# Altium footprint library uku20710_proc.PcbLib: 26 footprints (part 2 of 2)
Each footprint in its own frame and in the unit in brackets; x right, y up, seen from the top. Pads: shape width x height; smd on the part's side, far side on the other; paste and mask are expansions set on the pad; w line width, h text height; cw(c..) or ccw(c..) is an arc to the next point about the centre after c.
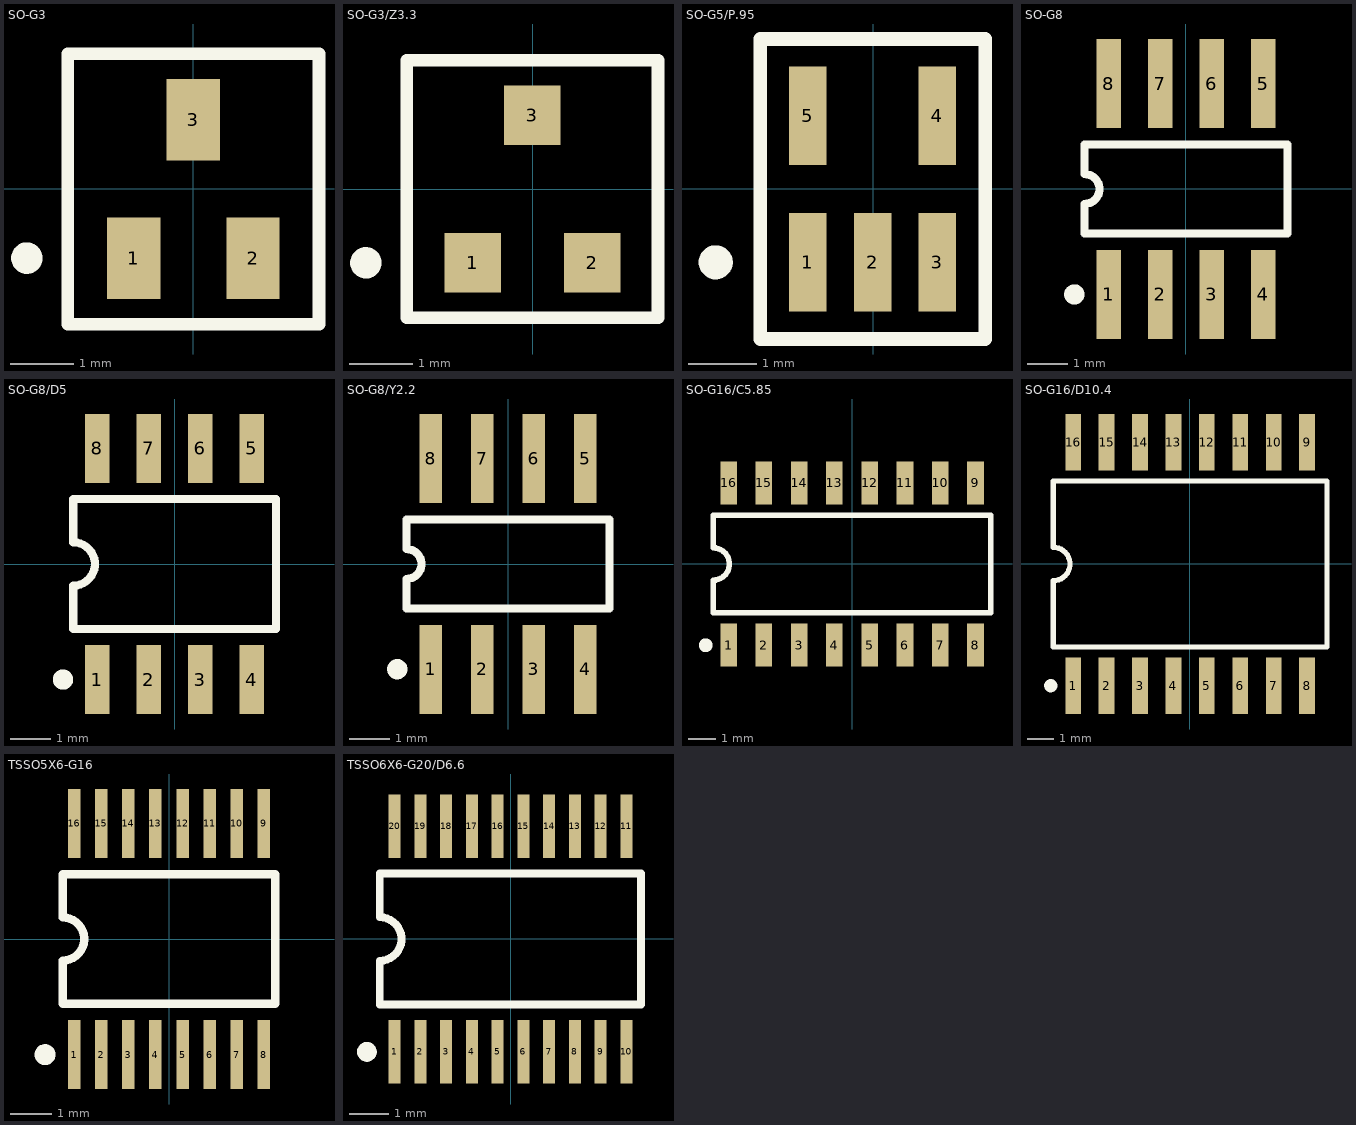
[diagram p1: the footprints below, top view; thin cyan lines are the x and y axes]

## SO-G3 [mm]
pads (3):
  rect 0.85x1.3 smd: 1(-0.949,-1.101) 2(0.951,-1.101) 3(0.001,1.099)
Top Overlay:
  circle w0.25: c-2.649,-1.101 r0.125
  lines w0.2: -1.999,-2.151 2.001,-2.151 2.001,2.149 -1.999,2.149 -1.999,-2.151

## SO-G3/Z3.3 [mm]
pads (3):
  rect 0.9x0.95 smd: 1(-0.953,-1.168) 2(0.947,-1.168) 3(-0.003,1.182)
Top Overlay:
  circle w0.25: c-2.653,-1.168 r0.125
  lines w0.2: -2.003,-2.043 1.997,-2.043 1.997,2.057 -2.003,2.057 -2.003,-2.043

## SO-G5/P.95 [mm]
pads (5):
  rect 0.55x1.45 smd: 1(-0.957,-1.077) 2(-0.006,-1.077) 3(0.943,-1.077) 4(0.943,1.073) 5(-0.957,1.073)
Top Overlay:
  circle w0.25: c-2.307,-1.077 r0.125
  lines w0.2: -1.656,-2.202 -1.656,2.198 1.643,2.198 1.643,-2.202 -1.656,-2.202

## SO-G8 [mm]
pads (8):
  rect 0.6x2.2 smd: 1(-1.9,-2.602) 2(-0.63,-2.602) 3(0.64,-2.602) 4(1.91,-2.602) 5(1.91,2.598) 6(0.64,2.598) 7(-0.63,2.598) 8(-1.9,2.598)
Top Overlay:
  circle w0.25: c-2.75,-2.602 r0.125
  lines w0.2: -2.495,-1.102 2.505,-1.102 2.505,1.098 -2.495,1.098 -2.495,0.365 cw(c-2.495,-0.002) -2.495,-0.369 -2.495,-1.102

## SO-G8/D5 [mm]
pads (8):
  rect 0.6x1.7 smd: 1(-1.906,-2.844) 2(-0.636,-2.844) 3(0.634,-2.844) 4(1.904,-2.844) 5(1.904,2.856) 6(0.634,2.856) 7(-0.636,2.856) 8(-1.906,2.856)
Top Overlay:
  circle w0.25: c-2.756,-2.844 r0.125
  lines w0.2: -2.501,-1.594 2.499,-1.594 2.499,1.606 -2.501,1.606 -2.501,0.539 cw(c-2.501,0.006) -2.501,-0.527 -2.501,-1.594

## SO-G8/Y2.2 [mm]
pads (8):
  rect 0.55x2.2 smd: 1(-1.913,-2.597) 2(-0.643,-2.597) 3(0.627,-2.597) 4(1.897,-2.597) 5(1.897,2.603) 6(0.627,2.603) 7(-0.643,2.603) 8(-1.913,2.603)
Top Overlay:
  circle w0.25: c-2.738,-2.592 r0.125
  lines w0.2: -2.508,-1.097 -2.508,-0.364 ccw(c-2.508,0.003) -2.508,0.37 -2.508,1.103 2.492,1.103 2.492,-1.097 -2.508,-1.097

## SO-G16/C5.85 [mm]
pads (16):
  rect 0.6x1.55 smd: 1(-4.447,-2.933) 2(-3.177,-2.933) 3(-1.907,-2.934) 4(-0.637,-2.933) 5(0.633,-2.933) 6(1.903,-2.933) 7(3.173,-2.933) 8(4.443,-2.933) 9(4.443,2.916) 10(3.173,2.916) 11(1.903,2.916) 12(0.633,2.916) 13(-0.637,2.916) 14(-1.907,2.916) 15(-3.177,2.916) 16(-4.447,2.916)
Top Overlay:
  circle w0.25: c-5.272,-2.934 r0.125
  lines w0.2: -5.002,-1.758 -5.002,-0.592 ccw(c-5.002,-0.009) -5.002,0.575 -5.002,1.741 4.998,1.741 4.998,-1.758 -5.002,-1.758

## SO-G16/D10.4 [mm]
pads (16):
  rect 0.6x2.15 smd: 1(-4.438,-4.631) 2(-3.168,-4.631) 3(-1.898,-4.631) 4(-0.628,-4.631) 5(0.642,-4.631) 6(1.912,-4.631) 7(3.182,-4.631) 8(4.452,-4.631) 9(4.452,4.619) 10(3.182,4.619) 11(1.912,4.619) 12(0.642,4.619) 13(-0.628,4.619) 14(-1.898,4.619) 15(-3.168,4.619) 16(-4.438,4.619)
Top Overlay:
  circle w0.25: c-5.288,-4.631 r0.125
  lines w0.2: -5.193,-3.156 -5.193,-0.641 ccw(c-5.193,-0.006) -5.193,0.629 -5.193,3.144 5.207,3.144 5.207,-3.156 -5.193,-3.156

## TSSO5X6-G16 [mm]
pads (16):
  rect 0.3x1.65 smd: 1(-2.276,-2.764) 2(-1.626,-2.764) 3(-0.976,-2.764) 4(-0.326,-2.764) 5(0.324,-2.764) 6(0.974,-2.764) 7(1.624,-2.764) 8(2.274,-2.764) 9(2.274,2.786) 10(1.624,2.786) 11(0.974,2.786) 12(0.324,2.786) 13(-0.326,2.786) 14(-0.976,2.786) 15(-1.626,2.786) 16(-2.276,2.786)
Top Overlay:
  circle w0.25: c-2.976,-2.764 r0.125
  lines w0.2: -2.551,-1.539 -2.551,-0.506 ccw(c-2.551,0.011) -2.551,0.528 -2.551,1.561 2.549,1.561 2.549,-1.539 -2.551,-1.539

## TSSO6X6-G20/D6.6 [mm]
pads (20):
  rect 0.3x1.6 smd: 1(-2.936,-2.861) 2(-2.286,-2.861) 3(-1.636,-2.861) 4(-0.986,-2.861) 5(-0.336,-2.861) 6(0.314,-2.861) 7(0.964,-2.861) 8(1.614,-2.861) 9(2.264,-2.861) 10(2.914,-2.861) 11(2.914,2.839) 12(2.264,2.839) 13(1.614,2.839) 14(0.964,2.839) 15(0.314,2.839) 16(-0.336,2.839) 17(-0.986,2.839) 18(-1.636,2.839) 19(-2.286,2.839) 20(-2.936,2.839)
Top Overlay:
  circle w0.25: c-3.636,-2.861 r0.125
  lines w0.2: -3.311,-1.661 3.289,-1.661 3.289,1.639 -3.311,1.639 -3.311,0.539 cw(c-3.311,-0.011) -3.311,-0.561 -3.311,-1.661